# Altium footprint library Miscellaneous Devices LC.PcbLib: 559 footprints (part 33 of 35)
Each footprint in its own frame and in the unit in brackets; x right, y up, seen from the top. Pads: shape width x height; smd on the part's side, far side on the other; paste and mask are expansions set on the pad; w line width, h text height; cw(c..) or ccw(c..) is an arc to the next point about the centre after c.
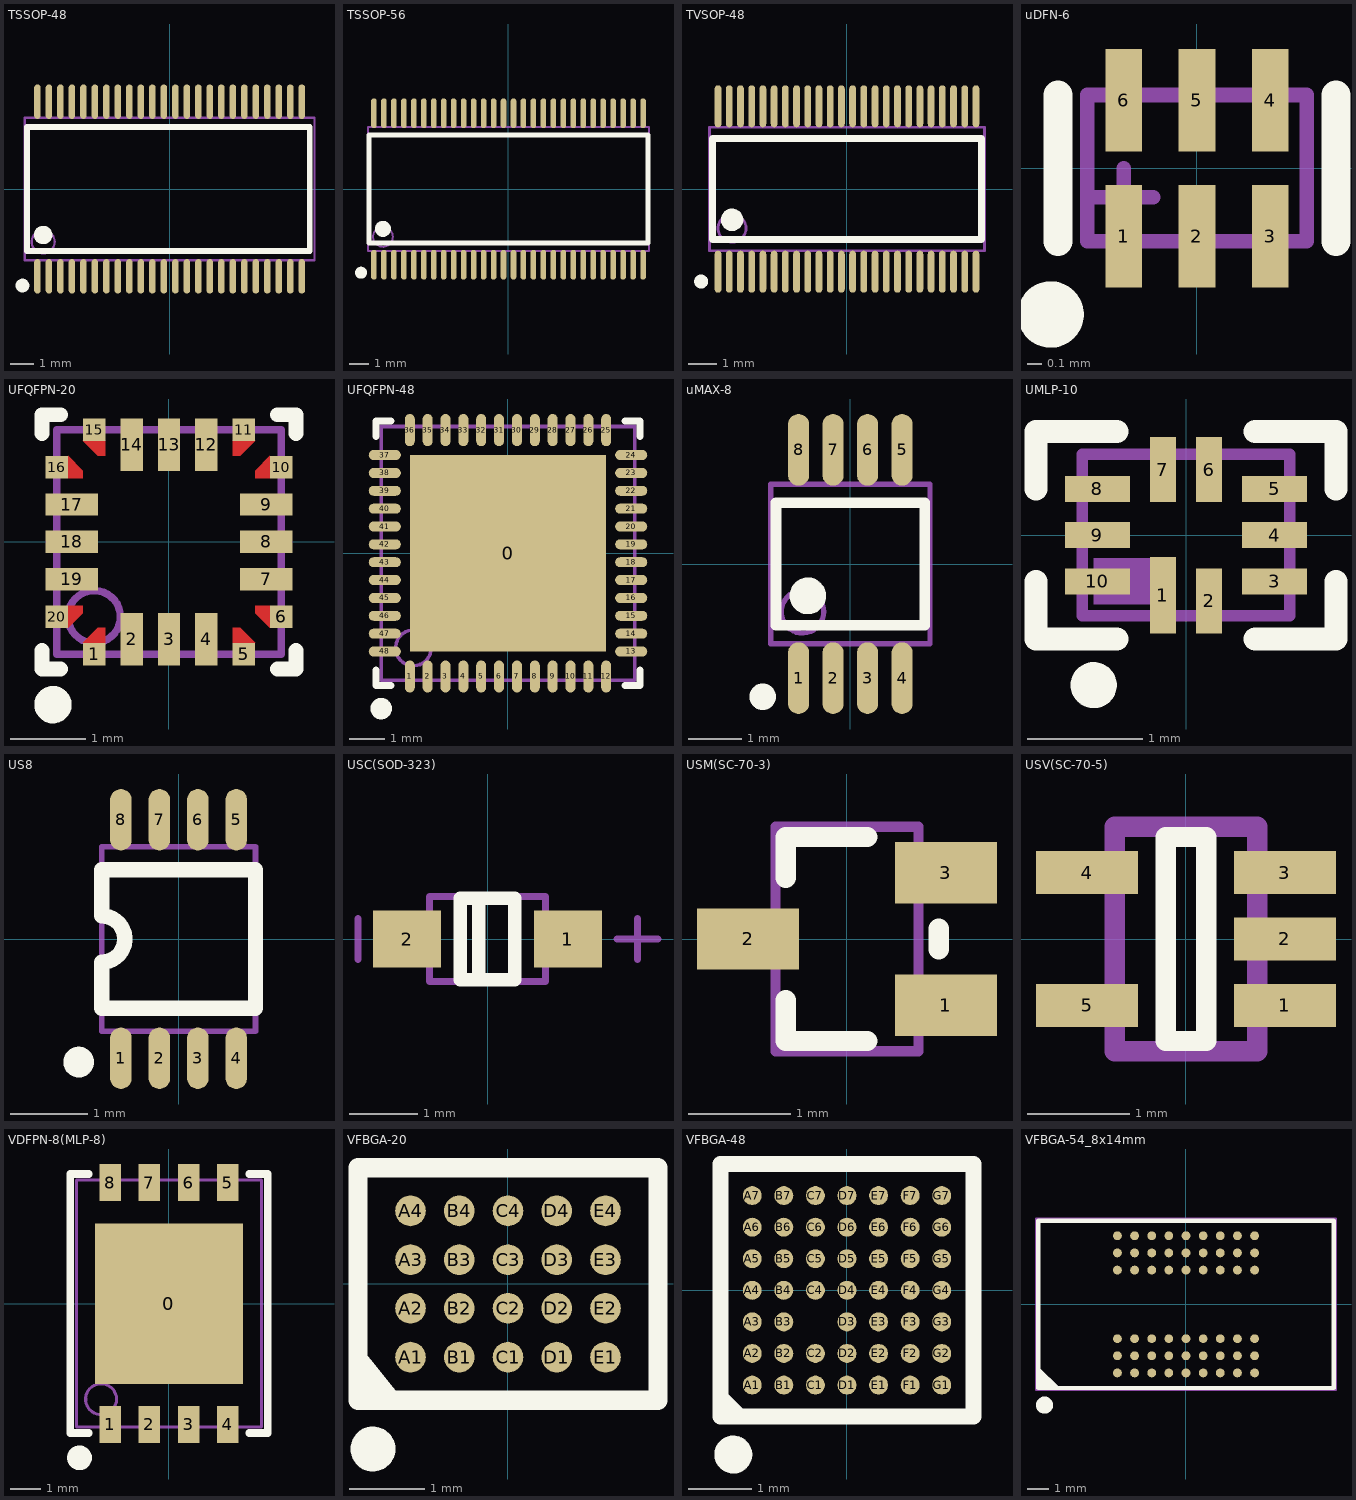
[diagram p32: the footprints below, top view; thin cyan lines are the x and y axes]

## TSSOP-48 [mm]
pads (48):
  oval 0.28x1.5 smd mask+0.051: 1(-5.75,-3.8) 2(-5.25,-3.8) 3(-4.75,-3.8) 4(-4.25,-3.8) 5(-3.75,-3.8) 6(-3.25,-3.8) 7(-2.75,-3.8) 8(-2.25,-3.8) 9(-1.75,-3.8) 10(-1.25,-3.8) 11(-0.75,-3.8) 12(-0.25,-3.8) 13(0.25,-3.8) 14(0.75,-3.8) 15(1.25,-3.8) 16(1.75,-3.8) 17(2.25,-3.8) 18(2.75,-3.8) 19(3.25,-3.8) 20(3.75,-3.8) 21(4.25,-3.8) 22(4.75,-3.8) 23(5.25,-3.8) 24(5.75,-3.8) 25(5.75,3.8) 26(5.25,3.8) 27(4.75,3.8) 28(4.25,3.8) 29(3.75,3.8) 30(3.25,3.8) 31(2.75,3.8) 32(2.25,3.8) 33(1.75,3.8) 34(1.25,3.8) 35(0.75,3.8) 36(0.25,3.8) 37(-0.25,3.8) 38(-0.75,3.8) 39(-1.25,3.8) 40(-1.75,3.8) 41(-2.25,3.8) 42(-2.75,3.8) 43(-3.25,3.8) 44(-3.75,3.8) 45(-4.25,3.8) 46(-4.75,3.8) 47(-5.25,3.8) 48(-5.75,3.8)
Top Overlay:
  circle w0.4: c-5.5,-2 r0.2
  circle w0.3: c-6.4,-4.2 r0.15
  lines w0.254: -6.2,-2.7 -6.2,2.7 6.1,2.7 6.1,-2.7 -6.2,-2.7
Mechanical 13:
  circle w0.1: c-5.5,-2.3 r0.5
  lines w0.1: -6.3,-3.1 6.3,-3.1 6.3,3.1 -6.3,3.1 -6.3,-3.1

## TSSOP-56 [mm]
pads (56):
  oval 0.28x1.5 smd mask+0.051: 1(-6.75,-3.8) 2(-6.25,-3.8) 3(-5.75,-3.8) 4(-5.25,-3.8) 5(-4.75,-3.8) 6(-4.25,-3.8) 7(-3.75,-3.8) 8(-3.25,-3.8) 9(-2.75,-3.8) 10(-2.25,-3.8) 11(-1.75,-3.8) 12(-1.25,-3.8) 13(-0.75,-3.8) 14(-0.25,-3.8) 15(0.25,-3.8) 16(0.75,-3.8) 17(1.25,-3.8) 18(1.75,-3.8) 19(2.25,-3.8) 20(2.75,-3.8) 21(3.25,-3.8) 22(3.75,-3.8) 23(4.25,-3.8) 24(4.75,-3.8) 25(5.25,-3.8) 26(5.75,-3.8) 27(6.25,-3.8) 28(6.75,-3.8) 29(6.75,3.8) 30(6.25,3.8) 31(5.75,3.8) 32(5.25,3.8) 33(4.75,3.8) 34(4.25,3.8) 35(3.75,3.8) 36(3.25,3.8) 37(2.75,3.8) 38(2.25,3.8) 39(1.75,3.8) 40(1.25,3.8) 41(0.75,3.8) 42(0.25,3.8) 43(-0.25,3.8) 44(-0.75,3.8) 45(-1.25,3.8) 46(-1.75,3.8) 47(-2.25,3.8) 48(-2.75,3.8) 49(-3.25,3.8) 50(-3.75,3.8) 51(-4.25,3.8) 52(-4.75,3.8) 53(-5.25,3.8) 54(-5.75,3.8) 55(-6.25,3.8) 56(-6.75,3.8)
Top Overlay:
  circle w0.3: c-7.4,-4.2 r0.15
  circle w0.4: c-6.3,-2 r0.2
  lines w0.254: -7,-2.7 -7,2.7 7,2.7 7,-2.7 -7,-2.7
Mechanical 13:
  circle w0.1: c-6.3,-2.4 r0.5
  lines w0.1: -7.05,-3.1 -7.05,3.1 7.05,3.1 7.05,-3.1 -7.05,-3.1

## TVSOP-48 [mm]
pads (48):
  oval 0.24x1.5 smd mask+0.051: 1(-4.6,-2.95) 2(-4.2,-2.95) 3(-3.8,-2.95) 4(-3.4,-2.95) 5(-3,-2.95) 6(-2.6,-2.95) 7(-2.2,-2.95) 8(-1.8,-2.95) 9(-1.4,-2.95) 10(-1,-2.95) 11(-0.6,-2.95) 12(-0.2,-2.95) 13(0.2,-2.95) 14(0.6,-2.95) 15(1,-2.95) 16(1.4,-2.95) 17(1.8,-2.95) 18(2.2,-2.95) 19(2.6,-2.95) 20(3,-2.95) 21(3.4,-2.95) 22(3.8,-2.95) 23(4.2,-2.95) 24(4.6,-2.95) 25(4.6,2.95) 26(4.2,2.95) 27(3.8,2.95) 28(3.4,2.95) 29(3,2.95) 30(2.6,2.95) 31(2.2,2.95) 32(1.8,2.95) 33(1.4,2.95) 34(1,2.95) 35(0.6,2.95) 36(0.2,2.95) 37(-0.2,2.95) 38(-0.6,2.95) 39(-1,2.95) 40(-1.4,2.95) 41(-1.8,2.95) 42(-2.2,2.95) 43(-2.6,2.95) 44(-3,2.95) 45(-3.4,2.95) 46(-3.8,2.95) 47(-4.2,2.95) 48(-4.6,2.95)
Top Overlay:
  circle w0.25: c-5.2,-3.3 r0.125
  circle w0.4: c-4.1,-1.1 r0.2
  lines w0.254: -4.8,-1.8 4.8,-1.8 4.8,1.8 -4.8,1.8 -4.8,-1.8
Mechanical 13:
  circle w0.1: c-4.1,-1.4 r0.5
  lines w0.1: -4.9,-2.2 -4.9,2.2 4.9,2.2 4.9,-2.2 -4.9,-2.2

## uDFN-6 [mm]
pads (6):
  rect 0.25x0.7 smd mask+0.051: 1(-0.5,-0.465) 2(0,-0.465) 3(0.5,-0.465) 4(0.5,0.465) 5(0,0.465) 6(-0.5,0.465)
Top Overlay:
  circle w0.254: c-1,-1 r0.1
  lines w0.2: -0.95,-0.5 -0.95,0.5 ; 0.95,-0.5 0.95,0.5
Mechanical 13:
  lines w0.1: -0.7,-0.2 -0.3,-0.2 ; -0.5,-0.4 -0.5,0 ; -0.75,-0.5 0.75,-0.5 0.75,0.5 -0.75,0.5 -0.75,-0.5

## UFQFPN-20 [mm]
pads (20):
  rect 0.3x0.3 smd paste+0 mask-0.15: 1(-1,-1.5) 5(1,-1.5) 6(1.5,-1) 10(1.5,1) 11(1,1.5) 15(-1,1.5) 16(-1.5,1) 20(-1.5,-1)
  rect 0.3x0.7 smd paste+0 mask+0.051: 2(-0.5,-1.3) 3(0,-1.3) 4(0.5,-1.3) 12(0.5,1.3) 13(0,1.3) 14(-0.5,1.3)
  rect 0.7x0.3 smd paste+0 mask+0.051: 7(1.3,-0.5) 8(1.3,0) 9(1.3,0.5) 17(-1.3,0.5) 18(-1.3,0) 19(-1.3,-0.5)
Top Layer:
  region: -1.15,-0.85 -1.35,-0.85 -1.35,-1.15 -1.15,-0.95
  region: -0.85,1.15 -0.85,1.35 -1.15,1.35 -0.95,1.15
  region: 1.15,0.85 1.35,0.85 1.35,1.15 1.15,0.95
  region: 0.85,-1.15 0.85,-1.35 1.15,-1.35 0.95,-1.15
  region: 0.85,1.15 0.85,1.35 1.15,1.35 0.95,1.15
  region: 1.15,-0.85 1.35,-0.85 1.35,-1.15 1.15,-0.95
  region: -0.85,-1.15 -0.85,-1.35 -1.15,-1.35 -0.95,-1.15
  region: -1.15,0.85 -1.35,0.85 -1.35,1.15 -1.15,0.95
Top Overlay:
  circle w0.25: c-1.55,-2.175 r0.125
  lines w0.2: -1.7,-1.45 -1.7,-1.7 -1.45,-1.7 ; -1.7,1.45 -1.7,1.7 -1.45,1.7 ; 1.45,-1.7 1.7,-1.7 1.7,-1.45 ; 1.45,1.7 1.7,1.7 1.7,1.45
Top Paste:
  region: -0.85,-1.15 -0.85,-1.35 -1.15,-1.35 -0.95,-1.15
  region: 1.15,-0.85 1.35,-0.85 1.35,-1.15 1.15,-0.95
  region: 0.85,1.15 0.85,1.35 1.15,1.35 0.95,1.15
  region: 0.85,-1.15 0.85,-1.35 1.15,-1.35 0.95,-1.15
  region: -0.85,1.15 -0.85,1.35 -1.15,1.35 -0.95,1.15
  region: -1.15,-0.85 -1.35,-0.85 -1.35,-1.15 -1.15,-0.95
  region: -1.15,0.85 -1.35,0.85 -1.35,1.15 -1.15,0.95
  region: 1.15,0.85 1.35,0.85 1.35,1.15 1.15,0.95
Top Solder:
  region: 1.325,1.21 1.71,1.21 1.71,0.79 1.09,0.79 1.09,0.975
  region: -1.325,1.21 -1.71,1.21 -1.71,0.79 -1.09,0.79 -1.09,0.975
  region: -1.325,-1.21 -1.71,-1.21 -1.71,-0.79 -1.09,-0.79 -1.09,-0.975
  region: 1.21,1.325 1.21,1.71 0.79,1.71 0.79,1.09 0.975,1.09
  region: 1.325,-1.21 1.71,-1.21 1.71,-0.79 1.09,-0.79 1.09,-0.975
  region: -1.21,1.325 -1.21,1.71 -0.79,1.71 -0.79,1.09 -0.975,1.09
  region: 1.21,-1.325 1.21,-1.71 0.79,-1.71 0.79,-1.09 0.975,-1.09
  region: -1.21,-1.325 -1.21,-1.71 -0.79,-1.71 -0.79,-1.09 -0.975,-1.09
Mechanical 13:
  circle w0.1: c-1,-1 r0.35
  lines w0.1: -1.5,-1.5 1.5,-1.5 1.5,1.5 -1.5,1.5 -1.5,-1.5
3D body: height 0.6, standoff 0, extent -1.55,-1.55 1.55,1.55

## UFQFPN-48 [mm]
pads (49):
  rect 5.5x5.5 smd mask+0.051: 0(0,0)
  oval 0.28x0.9 smd mask+0.051: 1(-2.75,-3.45) 2(-2.25,-3.45) 3(-1.75,-3.45) 4(-1.25,-3.45) 5(-0.75,-3.45) 6(-0.25,-3.45) 7(0.25,-3.45) 8(0.75,-3.45) 9(1.25,-3.45) 10(1.75,-3.45) 11(2.25,-3.45) 12(2.75,-3.45) 25(2.75,3.45) 26(2.25,3.45) 27(1.75,3.45) 28(1.25,3.45) 29(0.75,3.45) 30(0.25,3.45) 31(-0.25,3.45) 32(-0.75,3.45) 33(-1.25,3.45) 34(-1.75,3.45) 35(-2.25,3.45) 36(-2.75,3.45)
  oval 0.9x0.28 smd mask+0.051: 13(3.45,-2.75) 14(3.45,-2.25) 15(3.45,-1.75) 16(3.45,-1.25) 17(3.45,-0.75) 18(3.45,-0.25) 19(3.45,0.25) 20(3.45,0.75) 21(3.45,1.25) 22(3.45,1.75) 23(3.45,2.25) 24(3.45,2.75) 37(-3.45,2.75) 38(-3.45,2.25) 39(-3.45,1.75) 40(-3.45,1.25) 41(-3.45,0.75) 42(-3.45,0.25) 43(-3.45,-0.25) 44(-3.45,-0.75) 45(-3.45,-1.25) 46(-3.45,-1.75) 47(-3.45,-2.25) 48(-3.45,-2.75)
Top Overlay:
  circle w0.3: c-3.55,-4.35 r0.15
  lines w0.2: -3.7,-3.275 -3.7,-3.7 -3.275,-3.7 ; -3.7,3.275 -3.7,3.7 -3.275,3.7 ; 3.275,-3.7 3.7,-3.7 3.7,-3.275 ; 3.275,3.7 3.7,3.7 3.7,3.275
Mechanical 13:
  circle w0.1: c-2.65,-2.65 r0.5
  lines w0.1: -3.55,-3.55 -3.55,3.55 3.55,3.55 3.55,-3.55 -3.55,-3.55

## uMAX-8 [mm]
pads (8):
  oval 0.4x1.35 smd paste-0.025 mask+0.051: 1(-0.975,-2.15) 2(-0.325,-2.15) 3(0.325,-2.15) 4(0.975,-2.15) 5(0.975,2.15) 6(0.325,2.15) 7(-0.325,2.15) 8(-0.975,2.15)
Top Overlay:
  circle w0.35: c-0.8,-0.6 r0.17
  circle w0.25: c-1.65,-2.5 r0.125
  lines w0.2: -1.4,-1.15 1.4,-1.15 1.4,1.15 -1.4,1.15 -1.4,-1.15
Mechanical 13:
  circle w0.1: c-0.9,-0.9 r0.4
  lines w0.1: -1.5,-1.5 -1.5,1.5 1.5,1.5 1.5,-1.5 -1.5,-1.5

## UMLP-10 [mm]
pads (10):
  rect 0.225x0.663 smd mask+0.051: 1(-0.2,-0.519)
  rect 0.225x0.563 smd mask+0.051: 2(0.2,-0.569) 6(0.2,0.569) 7(-0.2,0.569)
  rect 0.563x0.225 smd mask+0.051: 3(0.768,-0.4) 4(0.768,0) 5(0.768,0.4) 8(-0.768,0.4) 9(-0.768,0) 10(-0.768,-0.4)
Top Overlay:
  circle w0.2: c-0.8,-1.3 r0.1
  lines w0.2: -1.3,-0.4 -1.3,-0.9 -0.6,-0.9 ; -1.3,0.4 -1.3,0.9 -0.6,0.9 ; 0.6,-0.9 1.3,-0.9 1.3,-0.4 ; 0.6,0.9 1.3,0.9 1.3,0.4
Mechanical 13:
  region: -0.3,-0.6 -0.3,-0.2 -0.8,-0.2 -0.8,-0.6
  lines w0.1: -0.9,-0.7 0.9,-0.7 0.9,0.7 -0.9,0.7 -0.9,-0.7

## US8 [mm]
pads (8):
  oval 0.28x0.8 smd mask+0.051: 1(-0.75,-1.55) 2(-0.25,-1.55) 3(0.25,-1.55) 4(0.75,-1.55) 5(0.75,1.55) 6(0.25,1.55) 7(-0.25,1.55) 8(-0.75,1.55)
Top Overlay:
  circle w0.2: c-1.3,-1.6 r0.1
  lines w0.2: -1,-0.9 1,-0.9 1,0.9 -1,0.9 -1,0.3 cw(c-1,0) -1,-0.3 -1,-0.9
Mechanical 13:
  lines w0.076: -1,-1.2 -1,1.2 1,1.2 1,-1.2 -1,-1.2

## USC(SOD-323) [mm] "=SOD-323"
pads (2):
  rect 1x0.83 smd: 1(1.18,0) 2(-1.18,0)
Top Overlay:
  lines w0.2: -0.13,-0.6 -0.13,0.6 ; -0.4,-0.6 0.4,-0.6 0.4,0.6 -0.4,0.6 -0.4,-0.6
Mechanical 13:
  lines w0.1: -0.85,-0.625 0.85,-0.625 0.85,0.625 -0.85,0.625 -0.85,-0.625
Mechanical 15:
  lines w0.1: -1.9,-0.3 -1.9,0.3 ; 1.9,0 2.5,0 ; 2.2,-0.3 2.2,0.3

## USM(SC-70-3) [mm] "=SOT-323"
pads (3):
  rect 1x0.6 smd: 1(0.97,-0.65) 2(-0.97,0) 3(0.97,0.65)
Top Overlay:
  lines w0.2: -0.6,-0.6 -0.6,-1 0.2,-1 ; -0.6,0.6 -0.6,1 0.2,1 ; 0.9,-0.1 0.9,0.1
Mechanical 13:
  lines w0.1: -0.7,-1.1 0.7,-1.1 0.7,1.1 -0.7,1.1 -0.7,-1.1

## USV(SC-70-5) [mm] "=SC-70-5"
pads (5):
  rect 1x0.42 smd mask+0.051: 1(0.97,-0.65) 2(0.97,0) 3(0.97,0.65) 4(-0.97,0.65) 5(-0.97,-0.65)
Top Overlay:
  lines w0.2: -0.2,-1 0.2,-1 0.2,1 -0.2,1 -0.2,-1
Mechanical 13:
  lines w0.2: -0.7,-1.1 -0.7,1.1 0.7,1.1 0.7,-1.1 -0.7,-1.1

## VDFPN-8(MLP-8) [mm]
pads (9):
  rect 4.8x5.2 smd: 0(0,0)
  rect 0.7x1.2 smd: 1(-1.905,-3.92) 2(-0.635,-3.92) 3(0.635,-3.92) 4(1.905,-3.92) 5(1.905,3.92) 6(0.635,3.92) 7(-0.635,3.92) 8(-1.905,3.92)
Top Overlay:
  circle w0.4: c-2.9,-5 r0.2
  lines w0.254: -2.6,-4.2 -3.2,-4.2 -3.2,4.2 -2.6,4.2 ; 2.6,-4.2 3.2,-4.2 3.2,4.2 2.6,4.2
Mechanical 13:
  circle w0.1: c-2.2,-3.1 r0.5
  lines w0.1: -3,-4 -3,4 3,4 3,-4 -3,-4

## VFBGA-20 [mm]
pads (20):
  round 0.41 smd mask+0.051: A1(-1.3,-0.975) A2(-1.3,-0.325) A3(-1.3,0.325) A4(-1.3,0.975) B1(-0.65,-0.975) B2(-0.65,-0.325) B3(-0.65,0.325) B4(-0.65,0.975) C1(0,-0.975) C2(0,-0.325) C3(0,0.325) C4(0,0.975) D1(0.65,-0.975) D2(0.65,-0.325) D3(0.65,0.325) D4(0.65,0.975) E1(1.3,-0.975) E2(1.3,-0.325) E3(1.3,0.325) E4(1.3,0.975)
Top Overlay:
  circle w0.3: c-1.8,-2.2 r0.15
  region: -2,-0.8 -1.4,-1.55 -2,-1.55
  lines w0.254: -2,-1.55 -2,1.55 2,1.55 2,-1.55 -2,-1.55

## VFBGA-48 [mm]
pads (48):
  round 0.3 smd mask+0.051: A1(-1.5,-1.5) A2(-1.5,-1) A3(-1.5,-0.5) A4(-1.5,0) A5(-1.5,0.5) A6(-1.5,1) A7(-1.5,1.5) B1(-1,-1.5) B2(-1,-1) B3(-1,-0.5) B4(-1,0) B5(-1,0.5) B6(-1,1) B7(-1,1.5) C1(-0.5,-1.5) C2(-0.5,-1) C4(-0.5,0) C5(-0.5,0.5) C6(-0.5,1) C7(-0.5,1.5) D1(0,-1.5) D2(0,-1) D3(0,-0.5) D4(0,0) D5(0,0.5) D6(0,1) D7(0,1.5) E1(0.5,-1.5) E2(0.5,-1) E3(0.5,-0.5) E4(0.5,0) E5(0.5,0.5) E6(0.5,1) E7(0.5,1.5) F1(1,-1.5) F2(1,-1) F3(1,-0.5) F4(1,0) F5(1,0.5) F6(1,1) F7(1,1.5) G1(1.5,-1.5) G2(1.5,-1) G3(1.5,-0.5) G4(1.5,0) G5(1.5,0.5) G6(1.5,1) G7(1.5,1.5)
Top Overlay:
  circle w0.3: c-1.8,-2.6 r0.15
  lines w0.254: -2,-1.7 -1.7,-2 ; -2,-2 2,-2 2,2 -2,2 -2,-2

## VFBGA-54_8x14mm [mm]
pads (54):
  round 0.41 smd mask+0.051: A1(-3.2,-3.2) A2(-3.2,-2.4) A3(-3.2,-1.6) A7(-3.2,1.6) A8(-3.2,2.4) A9(-3.2,3.2) B1(-2.4,-3.2) B2(-2.4,-2.4) B3(-2.4,-1.6) B7(-2.4,1.6) B8(-2.4,2.4) B9(-2.4,3.2) C1(-1.6,-3.2) C2(-1.6,-2.4) C3(-1.6,-1.6) C7(-1.6,1.6) C8(-1.6,2.4) C9(-1.6,3.2) D1(-0.8,-3.2) D2(-0.8,-2.4) D3(-0.8,-1.6) D7(-0.8,1.6) D8(-0.8,2.4) D9(-0.8,3.2) E1(0,-3.2) E2(0,-2.4) E3(0,-1.6) E7(0,1.6) E8(0,2.4) E9(0,3.2) F1(0.8,-3.2) F2(0.8,-2.4) F3(0.8,-1.6) F7(0.8,1.6) F8(0.8,2.4) F9(0.8,3.2) G1(1.6,-3.2) G2(1.6,-2.4) G3(1.6,-1.6) G7(1.6,1.6) G8(1.6,2.4) G9(1.6,3.2) H1(2.4,-3.2) H2(2.4,-2.4) H3(2.4,-1.6) H7(2.4,1.6) H8(2.4,2.4) H9(2.4,3.2) J1(3.2,-3.2) J2(3.2,-2.4) J3(3.2,-1.6) J7(3.2,1.6) J8(3.2,2.4) J9(3.2,3.2)
Top Overlay:
  circle w0.4: c-6.6,-4.7 r0.2
  region: -6.9,-2.9 -5.9,-3.9 -6.9,-3.9
  lines w0.2: -6.9,-3.9 -6.9,3.9 6.9,3.9 6.9,-3.9 -6.9,-3.9
Mechanical 13:
  lines w0.1: -7,-4 7,-4 7,4 -7,4 -7,-4